# Altium footprint library TransientBLE.PcbLib: 43 footprints (part 3 of 3)
Each footprint in its own frame and in the unit in brackets; x right, y up, seen from the top. Pads: shape width x height; smd on the part's side, far side on the other; paste and mask are expansions set on the pad; w line width, h text height; cw(c..) or ccw(c..) is an arc to the next point about the centre after c.
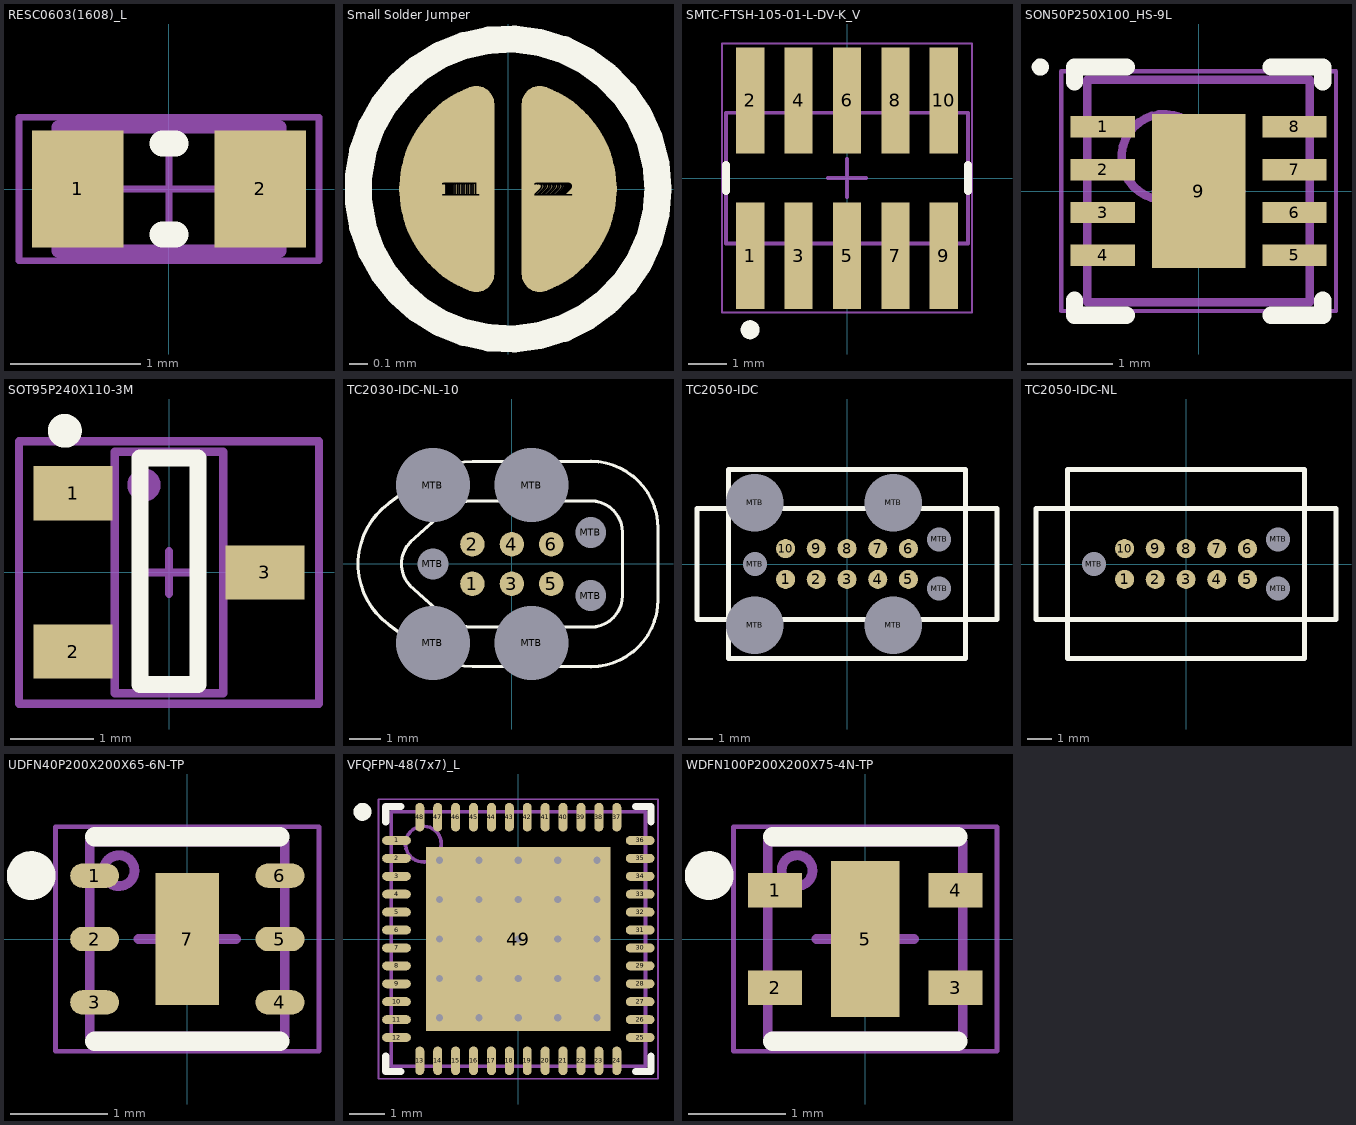
[diagram p2: the footprints below, top view; thin cyan lines are the x and y axes]

## RESC0603(1608)_L [mm] "Chip Resistor, Body 1.6x0.8mm, IPC High Density"
height 0.6
pads (2):
  rect 0.7x0.9 smd: 1(-0.7,0) 2(0.7,0)
Top Overlay:
  lines w0.2: -0.05,-0.35 0.05,-0.35 ; -0.05,0.35 0.05,0.35
Mechanical 13:
  lines w0.1: -0.85,-0.475 0.85,-0.475 0.85,0.475 -0.85,0.475 -0.85,-0.475
Mechanical 15:
  lines w0.05: -0.475,0 0.475,0 ; 0,-0.475 0,0.475 ; -1.15,-0.55 1.15,-0.55 1.15,0.55 -1.15,0.55 -1.15,-0.55
3D body: height 0.6, standoff 0, extent -0.849,-0.474 -0.58,0.475
3D body: height 0.6, standoff 0, extent -0.58,-0.474 0.581,0.475
3D body: height 0.6, standoff 0, extent 0.581,-0.474 0.85,0.475

## Small Solder Jumper [mm] "Small Solder Jumper (shortcut with a drop of tin if needed)"
height 3
pads (36):
  round 0.525 smd paste-5 mask+0: 1(-0.337,0) 2(0.337,0)
  oval 0.52x0.63 smd paste-5 mask+0: 1(-0.335,0) 2(0.335,0)
  oval 0.51x0.71 smd paste-5 mask+0: 1(-0.33,0) 2(0.33,0)
  oval 0.5x0.76 smd paste-5 mask+0: 1(-0.325,0) 2(0.325,0)
  oval 0.49x0.8 smd paste-5 mask+0: 1(-0.32,0) 2(0.32,0)
  oval 0.475x0.84 smd paste-5 mask+0: 1(-0.312,0) 2(0.312,0)
  oval 0.465x0.865 smd paste-5 mask+0: 1(-0.308,0) 2(0.308,0)
  oval 0.45x0.897 smd paste-5 mask+0: 1(-0.3,0) 2(0.3,0)
  oval 0.425x0.943 smd paste-5 mask+0: 1(-0.288,0) 2(0.288,0)
  oval 0.4x0.981 smd paste-5 mask+0: 1(-0.275,0) 2(0.275,0)
  oval 0.375x1.013 smd paste-5 mask+0: 1(-0.262,0) 2(0.262,0)
  oval 0.35x1.04 smd paste-5 mask+0: 1(-0.25,0) 2(0.25,0)
  oval 0.325x1.063 smd paste-5 mask+0: 1(-0.238,0) 2(0.238,0)
  oval 0.3x1.082 smd paste-5 mask+0: 1(-0.225,0) 2(0.225,0)
  oval 0.275x1.098 smd paste-5 mask+0: 1(-0.212,0) 2(0.212,0)
  oval 0.25x1.112 smd paste-5 mask+0: 1(-0.2,0) 2(0.2,0)
  oval 0.225x1.125 smd paste-5 mask+0: 1(-0.188,0) 2(0.188,0)
  oval 0.2x1.137 smd paste-5 mask+0: 1(-0.175,0) 2(0.175,0)
Top Overlay:
  circle w0.15: c0,0 r0.827
Top Solder:
  circle w0.7: c0,0 r0.35

## SMTC-FTSH-105-01-L-DV-K_V [mm] "CONN, 10-Leads, Body 6.35x3.43mm, Pitch 1.27mm"
height 6.25
pads (10):
  rect 0.74x2.79 smd: 1(-2.54,-2.035) 2(-2.54,2.035) 3(-1.27,-2.035) 4(-1.27,2.035) 5(0,-2.035) 6(0,2.035) 7(1.27,-2.035) 8(1.27,2.035) 9(2.54,-2.035) 10(2.54,2.035)
Top Overlay:
  circle w0.25: c-2.54,-3.98 r0.125
  lines w0.2: -3.175,-0.341 -3.175,0.341 ; 3.175,-0.341 3.175,0.341
Mechanical 13:
  lines w0.1: -3.175,-1.715 -3.175,1.715 3.175,1.715 3.175,-1.715 -3.175,-1.715
Mechanical 15:
  lines w0.05: -3.275,-3.53 -3.275,3.53 3.275,3.53 3.275,-3.53 -3.275,-3.53
  lines w0.1: -0.5,0 0.5,0 ; 0,-0.5 0,0.5
3D body "FTSH-105-01-L-DV-K.stp": height 6.12, standoff 0, extent -3.175,-2.921 3.175,2.921

## SON50P250X100_HS-9L [mm] "SON, 8-Leads, Body 2.50x2.50mm, Pitch 0.50mm, Thermal Pad 1.80x1.09mm, IPC High Density"
height 1
pads (9):
  rect 0.75x0.25 smd mask+0.05: 1(-1.12,0.75) 2(-1.12,0.25) 3(-1.12,-0.25) 4(-1.12,-0.75) 5(1.12,-0.75) 6(1.12,-0.25) 7(1.12,0.25) 8(1.12,0.75)
  rect 1.09x1.8 smd mask+0.05: 9(0,0)
Top Overlay:
  circle w0.1: c-1.85,1.45 r0.05
  lines w0.2: -1.45,-1.275 -1.45,-1.45 -0.845,-1.45 ; -1.45,1.275 -1.45,1.45 -0.845,1.45 ; 0.845,-1.45 1.45,-1.45 1.45,-1.275 ; 0.845,1.45 1.45,1.45 1.45,1.275
Mechanical 12:
  circle w0.1: c-0.4,0.4 r0.5
  lines w0.1: -1.3,-1.3 1.3,-1.3 1.3,1.3 -1.3,1.3 -1.3,-1.3
Mechanical 15:
  lines w0.05: -1.605,-1.4 1.605,-1.4 1.605,1.4 -1.605,1.4 -1.605,-1.4
  lines w0.1: -0.5,0 0.5,0 ; 0,-0.5 0,0.5
3D body "SON50P250X100_HS-9L.step": height 1, standoff 0, extent -1.3,-1.3 1.3,1.3

## SOT95P240X110-3M [mm]
height 1.1
pads (3):
  rect 0.95x0.65 smd: 1(-1.15,0.95) 2(-1.15,-0.95) 3(1.15,0)
Top Overlay:
  circle w0.25: c-1.25,1.7 r0.078
  lines w0.203: -0.35,-1.346 -0.35,1.372 0.35,1.372 0.35,-1.346 -0.35,-1.346
Mechanical 1:
  circle w0.2: c-0.3,1.05 r0.1
  lines w0.102: -0.65,-1.45 -0.65,1.45 0.65,1.45 0.65,-1.45 -0.65,-1.45
  text ".Designator" at -0.15,0.35 h0.51
Mechanical 15:
  lines w0.1: -0.254,0 0.254,0 ; 0,-0.254 0,0.254 ; -1.8,-1.575 -1.8,1.575 1.8,1.575 1.8,-1.575 -1.8,-1.575
3D body "SOT23-3.STEP": height 1.3, standoff 0, extent -1.4,-1.45 1.4,1.45

## TC2030-IDC-NL-10 [mil]
pads (13):
  round 31 smd paste-50: 1(-50,-25) 2(-50,25) 3(0,-25) 4(0,25) 5(50,-25) 6(50,25)
  round 30 hole 93.5 unplated paste-100 mask+4: MTB(-100,-100) MTB(-100,100) MTB(25,-100) MTB(25,100)
  round 30 hole 39 unplated paste-100 mask+4: MTB(-100,0) MTB(100,-40) MTB(100,40)
Top Overlay:
  lines w3.94: -83.83,68.36 cw(c-50,25) -50,80 100,80 cw(c100,40) 140,40 140,-40 cw(c100,-40) 100,-80 -50,-80 cw(c-50,-25) -83.83,-68.36 -124,-32 cw(c-100,0) -123.25,32.55 -83.08,68.91 ; 100,-130.15 ccw(c100,-45) 185.15,-45 184.99,45 ; 100,-130.08 -50,-130 cw(c-50,-25) -109.49,-111.52 -156.18,-76.61 cw(c-100,0) -156.18,76.61 -109.49,111.52 cw(c-50,25) -50,130 100,130.08 ; 100,130.15 cw(c100,45) 185.15,45

## TC2050-IDC [mil]
pads (17):
  round 31 smd paste-50: 1(-100,-25) 2(-50,-25) 3(0,-25) 4(50,-25) 5(100,-25) 6(100,25) 7(50,25) 8(0,25) 9(-50,25) 10(-100,25)
  round 30 hole 93.5 unplated paste-100 mask+4: MTB(-150,-100) MTB(-150,100) MTB(75,-100) MTB(75,100)
  round 30 hole 39 unplated paste-100 mask+4: MTB(-150,0) MTB(150,-40) MTB(150,40)
Top Overlay:
  lines w7.87: -244.09,-90.55 244.09,-90.55 244.09,90.55 -244.09,90.55 -244.09,-90.55 ; -192.91,-153.54 -192.91,153.54 192.91,153.54 192.91,-153.54 -192.91,-153.54

## TC2050-IDC-NL [mil]
pads (13):
  round 31 smd paste-50: 1(-100,-25) 2(-50,-25) 3(0,-25) 4(50,-25) 5(100,-25) 6(100,25) 7(50,25) 8(0,25) 9(-50,25) 10(-100,25)
  round 30 hole 39 unplated paste-100 mask+4: MTB(-150,0) MTB(150,-40) MTB(150,40)
Top Overlay:
  lines w7.87: -244.09,-90.55 244.09,-90.55 244.09,90.55 -244.09,90.55 -244.09,-90.55 ; -192.91,-153.54 -192.91,153.54 192.91,153.54 192.91,-153.54 -192.91,-153.54

## UDFN40P200X200X65-6N-TP [mm]
height 0.65
pads (7):
  oval 0.5x0.25 smd: 1(-0.95,0.65) 2(-0.95,0) 3(-0.95,-0.65) 4(0.95,-0.65) 5(0.95,0) 6(0.95,0.65)
  rect 0.65x1.35 smd: 7(0,0)
Top Overlay:
  circle w0.25: c-1.6,0.65 r0.125
  lines w0.2: -0.95,-1.05 0.95,-1.05 ; -0.95,1.05 0.95,1.05
Mechanical 13:
  circle w0.1: c-0.7,0.7 r0.158
  lines w0.1: -1,-1 1,-1 1,1 -1,1 -1,-1
Mechanical 15:
  lines w0.05: -1.35,-1.15 1.35,-1.15 1.35,1.15 -1.35,1.15 -1.35,-1.15
  lines w0.1: -0.5,0 0.5,0 ; 0,-0.5 0,0.5
3D body: height 0.65, standoff 0, extent -1,-1 1,1

## VFQFPN-48(7x7)_L [mm] "QFN, 48-Leads, Body 7x7mm, Pitch 0.5mm, Thermal Pad 5.15x5.15mm, IPC High Density"
height 1
pads (49):
  oval 0.8x0.25 smd: 1(-3.4,2.75) 2(-3.4,2.25) 3(-3.4,1.75) 4(-3.4,1.25) 5(-3.4,0.75) 6(-3.4,0.25) 7(-3.4,-0.25) 8(-3.4,-0.75) 9(-3.4,-1.25) 10(-3.4,-1.75) 11(-3.4,-2.25) 12(-3.4,-2.75) 25(3.4,-2.75) 26(3.4,-2.25) 27(3.4,-1.75) 28(3.4,-1.25) 29(3.4,-0.75) 30(3.4,-0.25) 31(3.4,0.25) 32(3.4,0.75) 33(3.4,1.25) 34(3.4,1.75) 35(3.4,2.25) 36(3.4,2.75)
  oval 0.25x0.8 smd: 13(-2.75,-3.4) 14(-2.25,-3.4) 15(-1.75,-3.4) 16(-1.25,-3.4) 17(-0.75,-3.4) 18(-0.25,-3.4) 19(0.25,-3.4) 20(0.75,-3.4) 21(1.25,-3.4) 22(1.75,-3.4) 23(2.25,-3.4) 24(2.75,-3.4) 37(2.75,3.4) 38(2.25,3.4) 39(1.75,3.4) 40(1.25,3.4) 41(0.75,3.4) 42(0.25,3.4) 43(-0.25,3.4) 44(-0.75,3.4) 45(-1.25,3.4) 46(-1.75,3.4) 47(-2.25,3.4) 48(-2.75,3.4)
  rect 5.15x5.15 smd: 49(0,0)
via -2.2,1.1 diameter 0.55 hole 0.2
via 0,2.2 diameter 0.55 hole 0.2
via -1.1,1.1 diameter 0.55 hole 0.2
via -1.1,2.2 diameter 0.55 hole 0.2
via -2.2,2.2 diameter 0.55 hole 0.2
via -2.2,-1.1 diameter 0.55 hole 0.2
via -2.2,0 diameter 0.55 hole 0.2
via 2.2,-2.2 diameter 0.55 hole 0.2
via 1.1,-2.2 diameter 0.55 hole 0.2
via 0,-2.2 diameter 0.55 hole 0.2
via -1.1,-2.2 diameter 0.55 hole 0.2
via -2.2,-2.2 diameter 0.55 hole 0.2
via 2.2,-1.1 diameter 0.55 hole 0.2
via 1.1,-1.1 diameter 0.55 hole 0.2
via 0,-1.1 diameter 0.55 hole 0.2
via -1.1,-1.1 diameter 0.55 hole 0.2
via 2.2,0 diameter 0.55 hole 0.2
via 1.1,0 diameter 0.55 hole 0.2
via 0,0 diameter 0.55 hole 0.2
via -1.1,0 diameter 0.55 hole 0.2
via 2.2,1.1 diameter 0.55 hole 0.2
via 1.1,1.1 diameter 0.55 hole 0.2
via 0,1.1 diameter 0.55 hole 0.2
via 2.2,2.2 diameter 0.55 hole 0.2
via 1.1,2.2 diameter 0.55 hole 0.2
Top Overlay:
  circle w0.25: c-4.35,3.55 r0.125
  lines w0.2: -3.7,-3.275 -3.7,-3.7 -3.275,-3.7 ; -3.7,3.275 -3.7,3.7 -3.275,3.7 ; 3.275,-3.7 3.7,-3.7 3.7,-3.275 ; 3.275,3.7 3.7,3.7 3.7,3.275
Mechanical 13:
  circle w0.1: c-2.65,2.65 r0.5
  lines w0.1: -3.55,-3.55 3.55,-3.55 3.55,3.55 -3.55,3.55 -3.55,-3.55
Mechanical 15:
  lines w0.05: -3.9,-3.9 3.9,-3.9 3.9,3.9 -3.9,3.9 -3.9,-3.9
  lines w0.1: -0.5,0 0.5,0 ; 0,-0.5 0,0.5
3D body: height 1, standoff 0, extent -3.55,-3.55 3.55,3.55

## WDFN100P200X200X75-4N-TP [mm]
height 0.75
pads (5):
  rect 0.55x0.35 smd mask-0.3: 1(-0.925,0.5) 2(-0.925,-0.5) 3(0.925,-0.5) 4(0.925,0.5)
  rect 0.7x1.6 smd mask-0.1: 5(0,0)
Top Overlay:
  circle w0.25: c-1.6,0.65 r0.125
  lines w0.2: -0.95,-1.05 0.95,-1.05 ; -0.95,1.05 0.95,1.05
Top Solder:
  rectangle: -1.3,-0.675 -0.75,-0.325
  rectangle: -1.3,0.325 -0.75,0.675
  region: 1.3,0.675 0.75,0.675 0.75,0.325 1.3,0.325
  region: 1.3,-0.325 0.75,-0.325 0.75,-0.675 1.3,-0.675
Mechanical 13:
  circle w0.1: c-0.7,0.7 r0.158
  lines w0.1: -1,-1 1,-1 1,1 -1,1 -1,-1
Mechanical 15:
  lines w0.05: -1.35,-1.15 1.35,-1.15 1.35,1.15 -1.35,1.15 -1.35,-1.15
  lines w0.1: -0.5,0 0.5,0 ; 0,-0.5 0,0.5
3D body: height 0.75, standoff 0, extent -1,-1 1,1